# EAGLE library part MSP432P401RIRGCR (library msp432)
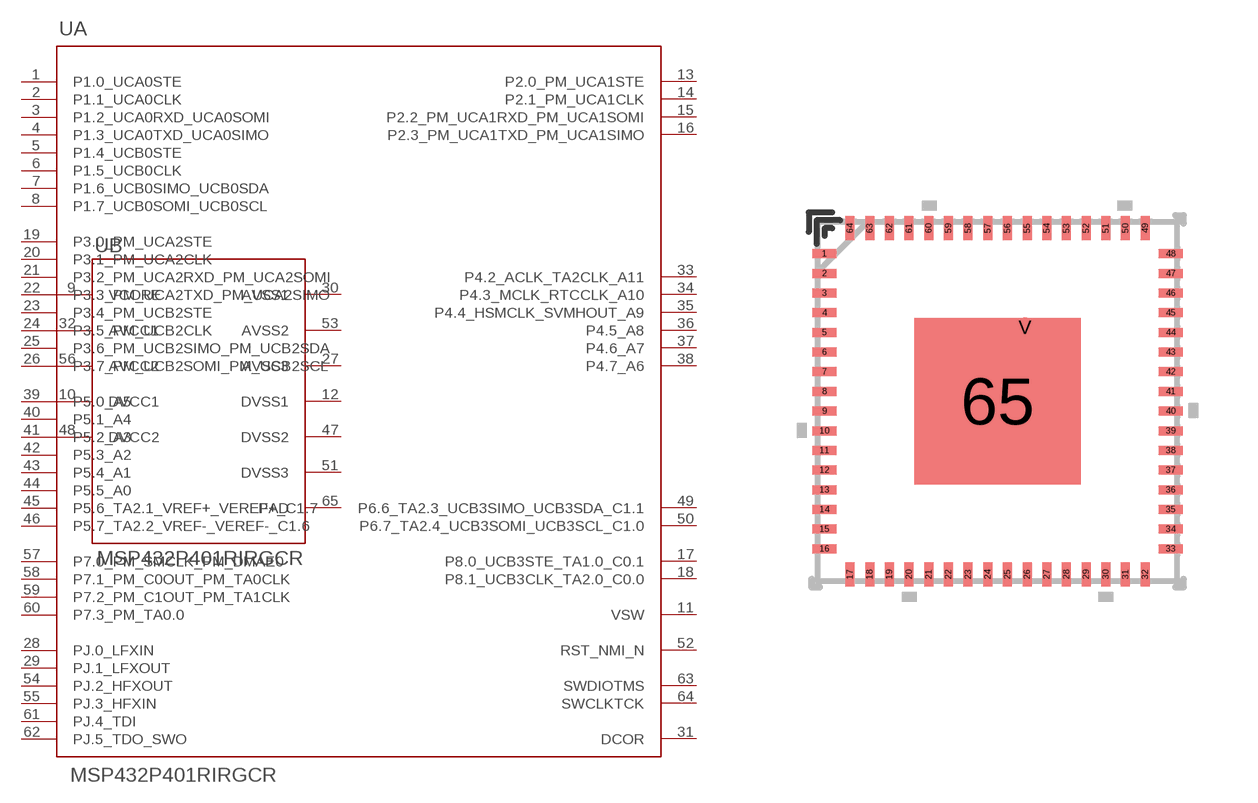
[diagram p0: symbol with the pads of RGC0064B; footprint RGC0064B]

Designator prefix U; gates A=MSP432P401RRGC_A B=MSP432P401RRGC_B

## MSP432P401RIRGCR (MANUFACTURER: Texas Instruments; PARTNUMBER: MSP432P401RIRGCR; REFDES: RefDes; TYPE: TYPE; VALUE: Value)  [RGC0064B]
1  A:P1.0_UCA0STE
2  A:P1.1_UCA0CLK
3  A:P1.2_UCA0RXD_UCA0SOMI
4  A:P1.3_UCA0TXD_UCA0SIMO
5  A:P1.4_UCB0STE
6  A:P1.5_UCB0CLK
7  A:P1.6_UCB0SIMO_UCB0SDA
8  A:P1.7_UCB0SOMI_UCB0SCL
9  B:VCORE  pwr
10  B:DVCC1  pwr
11  A:VSW  pwr
12  B:DVSS1  pwr
13  A:P2.0_PM_UCA1STE
14  A:P2.1_PM_UCA1CLK
15  A:P2.2_PM_UCA1RXD_PM_UCA1SOMI
16  A:P2.3_PM_UCA1TXD_PM_UCA1SIMO
17  A:P8.0_UCB3STE_TA1.0_C0.1
18  A:P8.1_UCB3CLK_TA2.0_C0.0
19  A:P3.0_PM_UCA2STE
20  A:P3.1_PM_UCA2CLK
21  A:P3.2_PM_UCA2RXD_PM_UCA2SOMI
22  A:P3.3_PM_UCA2TXD_PM_UCA2SIMO
23  A:P3.4_PM_UCB2STE
24  A:P3.5_PM_UCB2CLK
25  A:P3.6_PM_UCB2SIMO_PM_UCB2SDA
26  A:P3.7_PM_UCB2SOMI_PM_UCB2SCL
27  B:AVSS3  pwr
28  A:PJ.0_LFXIN
29  A:PJ.1_LFXOUT
30  B:AVSS1  pwr
31  A:DCOR  pas
32  B:AVCC1  pwr
33  A:P4.2_ACLK_TA2CLK_A11
34  A:P4.3_MCLK_RTCCLK_A10
35  A:P4.4_HSMCLK_SVMHOUT_A9
36  A:P4.5_A8
37  A:P4.6_A7
38  A:P4.7_A6
39  A:P5.0_A5
40  A:P5.1_A4
41  A:P5.2_A3
42  A:P5.3_A2
43  A:P5.4_A1
44  A:P5.5_A0
45  A:P5.6_TA2.1_VREF+_VEREF+_C1.7
46  A:P5.7_TA2.2_VREF-_VEREF-_C1.6
47  B:DVSS2  pwr
48  B:DVCC2  pwr
49  A:P6.6_TA2.3_UCB3SIMO_UCB3SDA_C1.1
50  A:P6.7_TA2.4_UCB3SOMI_UCB3SCL_C1.0
51  B:DVSS3  pwr
52  A:RST_NMI_N  in
53  B:AVSS2  pwr
54  A:PJ.2_HFXOUT
55  A:PJ.3_HFXIN
56  B:AVCC2  pwr
57  A:P7.0_PM_SMCLK_PM_DMAE0
58  A:P7.1_PM_C0OUT_PM_TA0CLK
59  A:P7.2_PM_C1OUT_PM_TA1CLK
60  A:P7.3_PM_TA0.0
61  A:PJ.4_TDI
62  A:PJ.5_TDO_SWO
63  A:SWDIOTMS
64  A:SWCLKTCK  in
65  B:PAD  pas

## Footprint RGC0064B (pad centres in mm)
smd 0.61 x 0.229: 1 -4.4,3.75; 2 -4.4,3.25; 3 -4.4,2.75; 4 -4.4,2.25; 5 -4.4,1.75; 6 -4.4,1.25; 7 -4.4,0.75; 8 -4.4,0.25; 9 -4.4,-0.25; 10 -4.4,-0.75; 11 -4.4,-1.25; 12 -4.4,-1.75; 13 -4.4,-2.25; 14 -4.4,-2.75; 15 -4.4,-3.25; 16 -4.4,-3.75; 33 4.4,-3.75; 34 4.4,-3.25; 35 4.4,-2.75; 36 4.4,-2.25; 37 4.4,-1.75; 38 4.4,-1.25; 39 4.4,-0.75; 40 4.4,-0.25; 41 4.4,0.25; 42 4.4,0.75; 43 4.4,1.25; 44 4.4,1.75; 45 4.4,2.25; 46 4.4,2.75; 47 4.4,3.25; 48 4.4,3.75
smd 0.229 x 0.61: 17 -3.751,-4.4; 18 -3.251,-4.4; 19 -2.751,-4.4; 20 -2.251,-4.4; 21 -1.75,-4.4; 22 -1.25,-4.4; 23 -0.75,-4.4; 24 -0.25,-4.4; 25 0.25,-4.4; 26 0.75,-4.4; 27 1.25,-4.4; 28 1.75,-4.4; 29 2.251,-4.4; 30 2.751,-4.4; 31 3.251,-4.4; 32 3.751,-4.4; 49 3.751,4.4; 50 3.251,4.4; 51 2.751,4.4; 52 2.251,4.4; 53 1.75,4.4; 54 1.25,4.4; 55 0.75,4.4; 56 0.25,4.4; 57 -0.25,4.4; 58 -0.75,4.4; 59 -1.25,4.4; 60 -1.75,4.4; 61 -2.251,4.4; 62 -2.751,4.4; 63 -3.251,4.4; 64 -3.751,4.4
smd 4.242 x 4.242: 65 0,0
smd 0.508 x 0.508: V 0.695,1.875